# Altium footprint library IPC-7355 CQFP_Sq_80P_Side_L.PcbLib: 2 footprints
Each footprint in its own frame and in the unit in brackets; x right, y up, seen from the top. Pads: shape width x height; smd on the part's side, far side on the other; paste and mask are expansions set on the pad; w line width, h text height; cw(c..) or ccw(c..) is an arc to the next point about the centre after c.
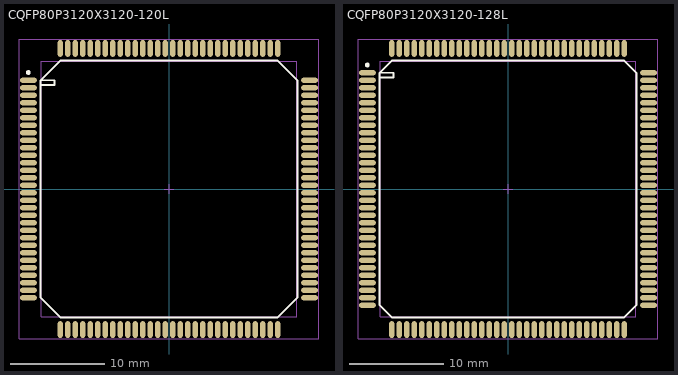
[diagram p0: the footprints below, top view; thin cyan lines are the x and y axes]

## CQFP80P3120X3120-120L [mm] "CQFP, 120-Leads, Body 27.1x27.1mm; Pitch 0.8mm, Gullwing Leadform, IPC High Density"
height 4.1
pads (120):
  oval 1.8x0.55 smd: 1(-15,11.6) 2(-15,10.8) 3(-15,10) 4(-15,9.2) 5(-15,8.4) 6(-15,7.6) 7(-15,6.8) 8(-15,6) 9(-15,5.2) 10(-15,4.4) 11(-15,3.6) 12(-15,2.8) 13(-15,2) 14(-15,1.2) 15(-15,0.4) 16(-15,-0.4) 17(-15,-1.2) 18(-15,-2) 19(-15,-2.8) 20(-15,-3.6) 21(-15,-4.4) 22(-15,-5.2) 23(-15,-6) 24(-15,-6.8) 25(-15,-7.6) 26(-15,-8.4) 27(-15,-9.2) 28(-15,-10) 29(-15,-10.8) 30(-15,-11.6) 61(15,-11.6) 62(15,-10.8) 63(15,-10) 64(15,-9.2) 65(15,-8.4) 66(15,-7.6) 67(15,-6.8) 68(15,-6) 69(15,-5.2) 70(15,-4.4) 71(15,-3.6) 72(15,-2.8) 73(15,-2) 74(15,-1.2) 75(15,-0.4) 76(15,0.4) 77(15,1.2) 78(15,2) 79(15,2.8) 80(15,3.6) 81(15,4.4) 82(15,5.2) 83(15,6) 84(15,6.8) 85(15,7.6) 86(15,8.4) 87(15,9.2) 88(15,10) 89(15,10.8) 90(15,11.6)
  oval 0.55x1.8 smd: 31(-11.6,-15) 32(-10.8,-15) 33(-10,-15) 34(-9.2,-15) 35(-8.4,-15) 36(-7.6,-15) 37(-6.8,-15) 38(-6,-15) 39(-5.2,-15) 40(-4.4,-15) 41(-3.6,-15) 42(-2.8,-15) 43(-2,-15) 44(-1.2,-15) 45(-0.4,-15) 46(0.4,-15) 47(1.2,-15) 48(2,-15) 49(2.8,-15) 50(3.6,-15) 51(4.4,-15) 52(5.2,-15) 53(6,-15) 54(6.8,-15) 55(7.6,-15) 56(8.4,-15) 57(9.2,-15) 58(10,-15) 59(10.8,-15) 60(11.6,-15) 91(11.6,15) 92(10.8,15) 93(10,15) 94(9.2,15) 95(8.4,15) 96(7.6,15) 97(6.8,15) 98(6,15) 99(5.2,15) 100(4.4,15) 101(3.6,15) 102(2.8,15) 103(2,15) 104(1.2,15) 105(0.4,15) 106(-0.4,15) 107(-1.2,15) 108(-2,15) 109(-2.8,15) 110(-3.6,15) 111(-4.4,15) 112(-5.2,15) 113(-6,15) 114(-6.8,15) 115(-7.6,15) 116(-8.4,15) 117(-9.2,15) 118(-10,15) 119(-10.8,15) 120(-11.6,15)
Top Overlay:
  circle w0.25: c-15,12.425 r0.125
  lines w0.2: -13.7,11.1 -12.2,11.1 -12.2,11.6 -13.7,11.6 ; -13.7,11.6 -13.7,-11.6 -11.6,-13.7 11.6,-13.7 13.7,-11.6 13.7,11.6 11.6,13.7 -11.6,13.7 -13.7,11.6
Mechanical 13:
  lines w0.1: -13.65,-13.65 -13.65,13.65 13.65,13.65 13.65,-13.65 -13.65,-13.65
Mechanical 15:
  lines w0.1: -0.5,0 0.5,0 ; 0,-0.5 0,0.5 ; -16,-16 -16,16 16,16 16,-16 -16,-16
3D body: height 4.1, standoff 0, extent -13.65,-13.65 13.65,13.65

## CQFP80P3120X3120-128L [mm] "CQFP, 128-Leads, Body 27.1x27.1mm; Pitch 0.8mm, Gullwing Leadform, IPC High Density"
height 4.1
pads (128):
  oval 1.8x0.55 smd: 1(-15,12.4) 2(-15,11.6) 3(-15,10.8) 4(-15,10) 5(-15,9.2) 6(-15,8.4) 7(-15,7.6) 8(-15,6.8) 9(-15,6) 10(-15,5.2) 11(-15,4.4) 12(-15,3.6) 13(-15,2.8) 14(-15,2) 15(-15,1.2) 16(-15,0.4) 17(-15,-0.4) 18(-15,-1.2) 19(-15,-2) 20(-15,-2.8) 21(-15,-3.6) 22(-15,-4.4) 23(-15,-5.2) 24(-15,-6) 25(-15,-6.8) 26(-15,-7.6) 27(-15,-8.4) 28(-15,-9.2) 29(-15,-10) 30(-15,-10.8) 31(-15,-11.6) 32(-15,-12.4) 65(15,-12.4) 66(15,-11.6) 67(15,-10.8) 68(15,-10) 69(15,-9.2) 70(15,-8.4) 71(15,-7.6) 72(15,-6.8) 73(15,-6) 74(15,-5.2) 75(15,-4.4) 76(15,-3.6) 77(15,-2.8) 78(15,-2) 79(15,-1.2) 80(15,-0.4) 81(15,0.4) 82(15,1.2) 83(15,2) 84(15,2.8) 85(15,3.6) 86(15,4.4) 87(15,5.2) 88(15,6) 89(15,6.8) 90(15,7.6) 91(15,8.4) 92(15,9.2) 93(15,10) 94(15,10.8) 95(15,11.6) 96(15,12.4)
  oval 0.55x1.8 smd: 33(-12.4,-15) 34(-11.6,-15) 35(-10.8,-15) 36(-10,-15) 37(-9.2,-15) 38(-8.4,-15) 39(-7.6,-15) 40(-6.8,-15) 41(-6,-15) 42(-5.2,-15) 43(-4.4,-15) 44(-3.6,-15) 45(-2.8,-15) 46(-2,-15) 47(-1.2,-15) 48(-0.4,-15) 49(0.4,-15) 50(1.2,-15) 51(2,-15) 52(2.8,-15) 53(3.6,-15) 54(4.4,-15) 55(5.2,-15) 56(6,-15) 57(6.8,-15) 58(7.6,-15) 59(8.4,-15) 60(9.2,-15) 61(10,-15) 62(10.8,-15) 63(11.6,-15) 64(12.4,-15) 97(12.4,15) 98(11.6,15) 99(10.8,15) 100(10,15) 101(9.2,15) 102(8.4,15) 103(7.6,15) 104(6.8,15) 105(6,15) 106(5.2,15) 107(4.4,15) 108(3.6,15) 109(2.8,15) 110(2,15) 111(1.2,15) 112(0.4,15) 113(-0.4,15) 114(-1.2,15) 115(-2,15) 116(-2.8,15) 117(-3.6,15) 118(-4.4,15) 119(-5.2,15) 120(-6,15) 121(-6.8,15) 122(-7.6,15) 123(-8.4,15) 124(-9.2,15) 125(-10,15) 126(-10.8,15) 127(-11.6,15) 128(-12.4,15)
Top Overlay:
  circle w0.25: c-15,13.225 r0.125
  lines w0.2: -13.7,11.9 -12.2,11.9 -12.2,12.4 -13.7,12.4 ; -13.7,12.4 -13.7,-12.4 -12.4,-13.7 12.4,-13.7 13.7,-12.4 13.7,12.4 12.4,13.7 -12.4,13.7 -13.7,12.4
Mechanical 13:
  lines w0.1: -13.65,-13.65 -13.65,13.65 13.65,13.65 13.65,-13.65 -13.65,-13.65
Mechanical 15:
  lines w0.1: -0.5,0 0.5,0 ; 0,-0.5 0,0.5 ; -16,-16 -16,16 16,16 16,-16 -16,-16
3D body: height 4.1, standoff 0, extent -13.65,-13.65 13.65,13.65